# Altium integrated library SPL_PL90.IntLib: 1 symbol
Pins are listed as number, name and electrical type; pins without a type are passive.

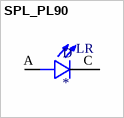
[diagram p0: symbol SPL_PL90]

## SPL_PL90
designator D
Laser Diode 905nm 90W 8 ~ 11V 40A Radial, Can _5.7mm_; MP: SPL PL90; MF: OSRAM Opto; SnapEDA_Link: https://www.snapeda.com/parts/SPL%20PL90/OSRAM%20Opto%20Semiconductors%20Inc./view-part/3590149/?ref=snap; Value: *; Package: Radial OSRAM Opto; Price: None; Availability: Unavailable
footprint LEDRD254W40D590H700
pins: A, C
text: LR